# EAGLE library part 74HC4051 (library elements_cs2016)
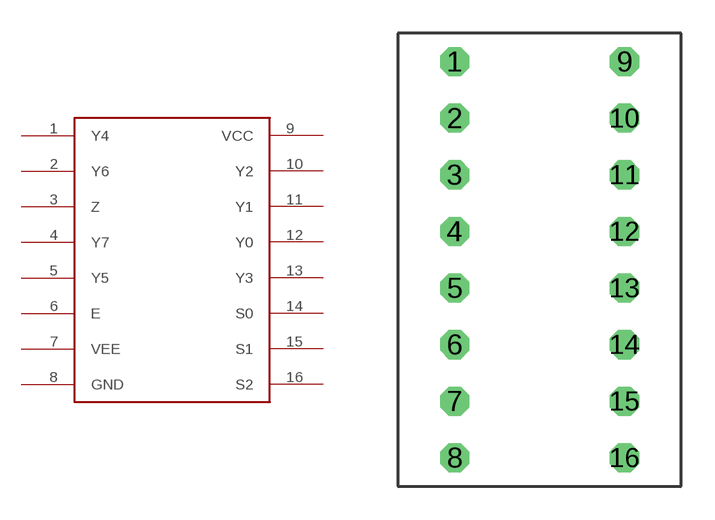
[diagram p2: symbol with the pads of 74HC4051; footprint 74HC4051]

Designator prefix -

## 74HC4051  [74HC4051]
1  Y4
2  Y6
3  Z
4  Y7
5  Y5
6  E
7  VEE
8  GND
9  VCC
10  Y2
11  Y1
12  Y0
13  Y3
14  S0
15  S1
16  S2

## Footprint 74HC4051 (pad centres in mm)
drill 0.8 octagon: 1 -3.81,7.62; 2 -3.81,5.08; 3 -3.81,2.54; 4 -3.81,0; 5 -3.81,-2.54; 6 -3.81,-5.08; 7 -3.81,-7.62; 8 -3.81,-10.16; 9 3.81,7.62; 10 3.81,5.08; 11 3.81,2.54; 12 3.81,0; 13 3.81,-2.54; 14 3.81,-5.08; 15 3.81,-7.62; 16 3.81,-10.16